# Altium schematic symbol library NCV33269DTRK5.0G.SchLib: 1 symbol
Pins are listed as number, name and electrical type; pins without a type are passive.

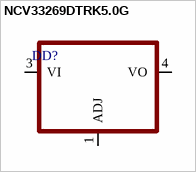
[diagram p0: symbol NCV33269DTRK5.0G]

## NCV33269DTRK5.0G
designator DD?
pins: 1 ADJ, 3 VI, 4 VO